# Altium schematic symbol library gps_ublox.SchLib: 5 symbols
Pins are listed as number, name and electrical type; pins without a type are passive.

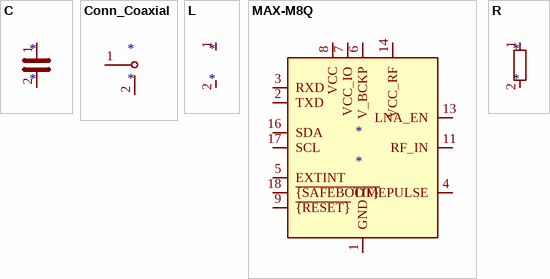
[diagram p0: symbols C to R]

## C
designator *
pins: 1, 2

## Conn_Coaxial
designator *
pins: 1 In, 2 Ext

## L
designator *
pins: 1, 2

## MAX-M8Q
designator *
pins: 1 GND, 2 TXD, 3 RXD, 4 TIMEPULSE, 5 EXTINT, 6 V_BCKP, 7 VCC_IO, 8 VCC, 9 ~{{RESET}}, 10 GND hidden, 11 RF_IN, 12 GND hidden, 13 LNA_EN, 14 VCC_RF, 15 Reserved hidden, 16 SDA, 17 SCL, 18 ~{{SAFEBOOT}}

## R
designator *
pins: 1, 2